# Altium footprint library plcc-socket.PCBLIB: 19 footprints (part 1 of 2)
Each footprint in its own frame and in the unit in brackets; x right, y up, seen from the top. Pads: shape width x height; smd on the part's side, far side on the other; paste and mask are expansions set on the pad; w line width, h text height; cw(c..) or ccw(c..) is an arc to the next point about the centre after c.
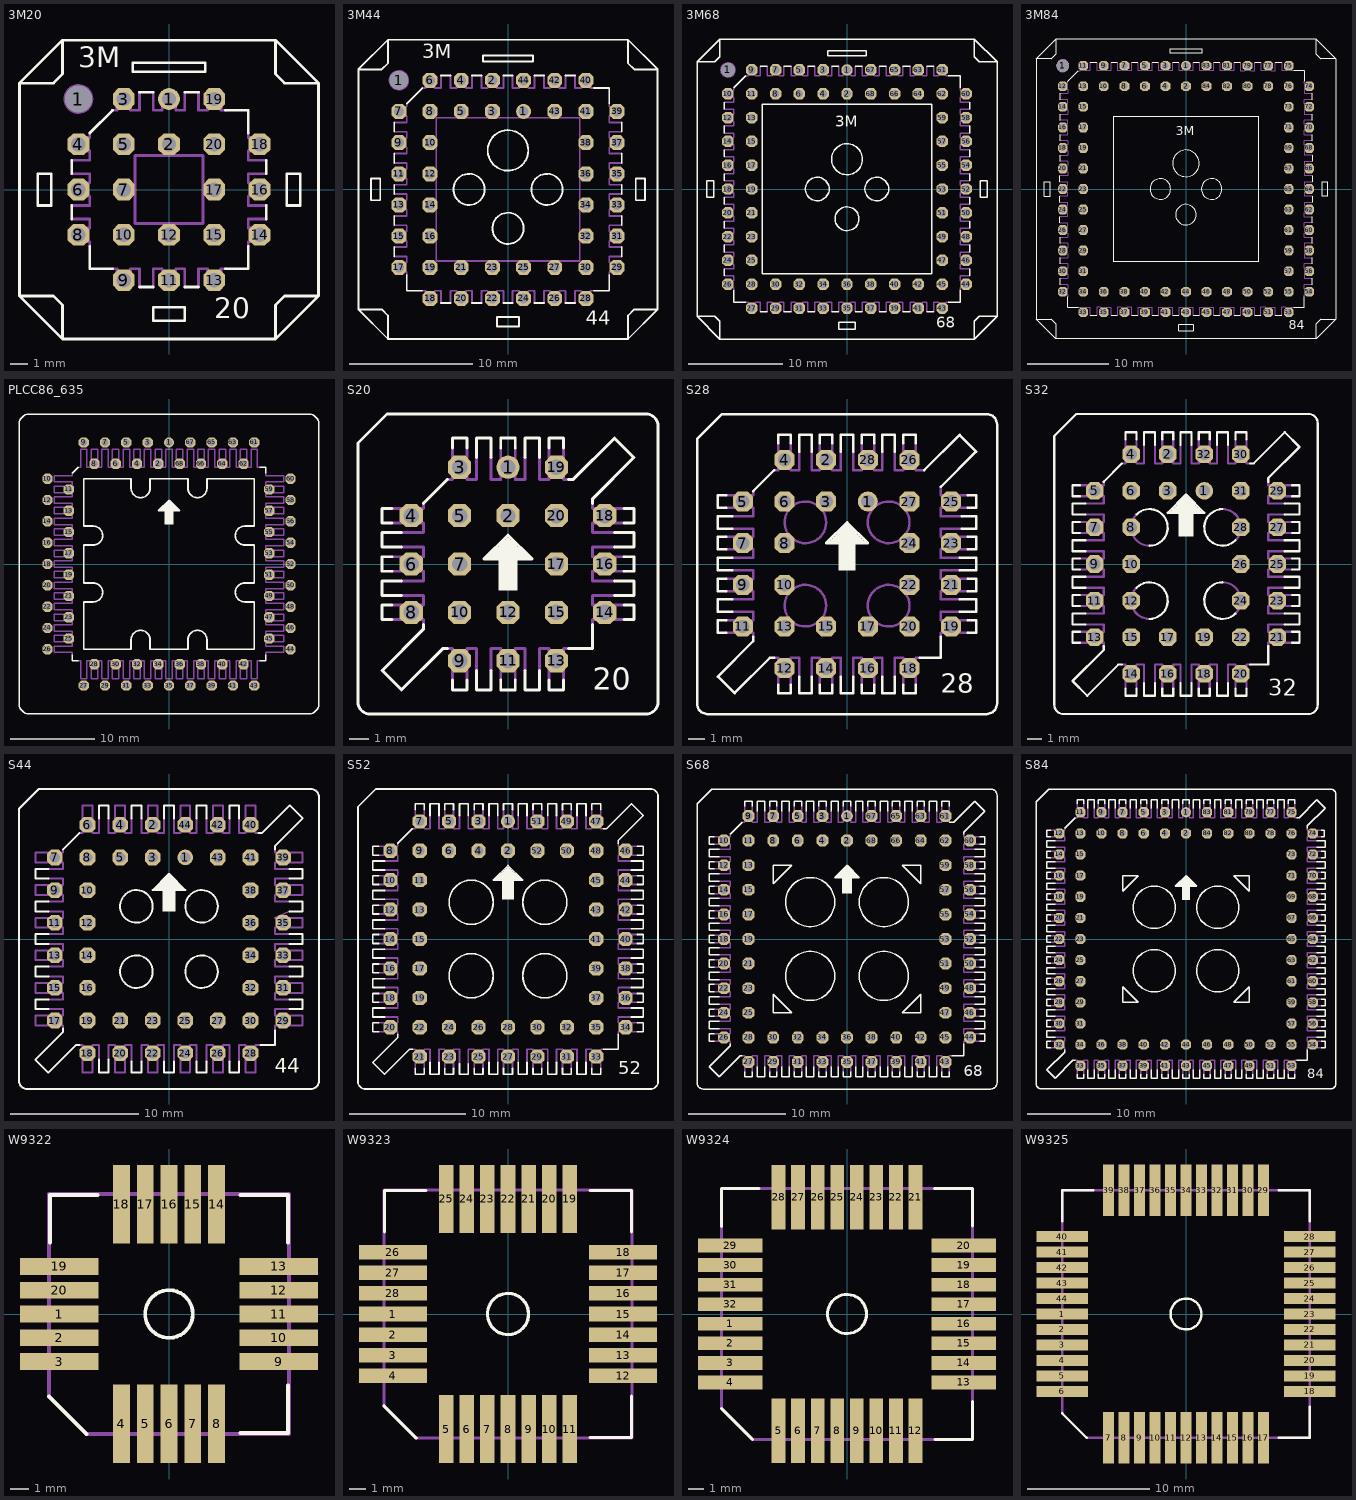
[diagram p0: the footprints below, top view; thin cyan lines are the x and y axes]

## 3M20 [mil]
pads (21):
  round 59 hole 59: 1(-200,200)
  round 48 hole 32: 1(0,200)
  oct 48x48 hole 32: 2(0,100) 3(-100,200) 4(-200,100) 5(-100,100) 6(-200,0) 7(-100,0) 8(-200,-100) 9(-100,-200) 10(-100,-100) 11(0,-200) 12(0,-100) 13(100,-200) 14(200,-100) 15(100,-100) 16(200,0) 17(100,0) 18(200,100) 19(100,200) 20(100,100)
Top Overlay:
  lines w6: -215,-65 -215,-35 ; -215,35 -215,65 ; -175,-125 -175,-175 -125,-175 ; -175,125 -125,175 ; -65,-215 -35,-215 ; -65,215 -35,215 ; 35,-215 65,-215 ; 35,215 65,215 ; 125,-175 175,-175 175,-125 ; 125,175 175,175 175,125 ; 215,-65 215,-35 ; 215,35 215,65 ; -330,-235 -330,235 ; -330,-235 -255,-235 -235,-255 -235,-330 ; -330,-235 -235,-330 ; -330,235 -255,235 -235,255 -235,330 ; -330,235 -235,330 ; -235,-330 235,-330 ; -235,330 235,330 ; 235,-330 235,-255 255,-235 330,-235 ; 235,-330 330,-235 ; 235,330 235,255 255,235 330,235 ; 235,330 330,235 ; 330,-235 330,235 ; -290,-35 -290,35 -260,35 -260,-35 -290,-35 ; -80,260 -80,280 80,280 80,260 -80,260 ; -35,-290 -35,-260 35,-260 35,-290 -35,-290 ; 260,-35 260,35 290,35 290,-35 260,-35
  text "3M" at -200,255 h77.5
  text "20" at 100,-300 h77.5
Mechanical 16:
  circle w6: c-200,200 r30
  lines w6: -215,-65 -175,-65 -175,-85 -215,-85 -215,-115 -175,-115 -175,-125 ; -215,-35 -175,-35 -175,-15 -215,-15 -215,15 -175,15 -175,35 -215,35 ; -215,65 -175,65 -175,85 -215,85 -215,115 -175,115 -175,125 ; -125,-175 -115,-175 -115,-215 -85,-215 -85,-175 -65,-175 -65,-215 ; -125,175 -115,175 -115,215 -85,215 -85,175 -65,175 -65,215 ; -35,-215 -35,-175 -15,-175 -15,-215 15,-215 15,-175 35,-175 35,-215 ; -35,215 -35,175 -15,175 -15,215 15,215 15,175 35,175 35,215 ; 65,-215 65,-175 85,-175 85,-215 115,-215 115,-175 125,-175 ; 65,215 65,175 85,175 85,215 115,215 115,175 125,175 ; 175,-125 175,-115 215,-115 215,-85 175,-85 175,-65 215,-65 ; 175,125 175,115 215,115 215,85 175,85 175,65 215,65 ; 215,-35 175,-35 175,-15 215,-15 215,15 175,15 175,35 215,35 ; -75,-75 75,-75 75,75 -75,75 -75,-75

## 3M44 [mil]
pads (45):
  round 59 hole 59: 1(-350,350)
  round 48 hole 32: 1(50,250)
  oct 48x48 hole 32: 2(-50,350) 3(-50,250) 4(-150,350) 5(-150,250) 6(-250,350) 7(-350,250) 8(-250,250) 9(-350,150) 10(-250,150) 11(-350,50) 12(-250,50) 13(-350,-50) 14(-250,-50) 15(-350,-150) 16(-250,-150) 17(-350,-250) 18(-250,-350) 19(-250,-250) 20(-150,-350) 21(-150,-250) 22(-50,-350) 23(-50,-250) 24(50,-350) 25(50,-250) 26(150,-350) 27(150,-250) 28(250,-350) 29(350,-250) 30(250,-250) 31(350,-150) 32(250,-150) 33(350,-50) 34(250,-50) 35(350,50) 36(250,50) 37(350,150) 38(250,150) 39(350,250) 40(250,350) 41(250,250) 42(150,350) 43(150,250) 44(50,350)
Top Overlay:
  circle w6: c0,125 r65
  circle w6: c125,0 r50
  circle w6: c0,-125 r50
  circle w6: c-125,0 r50
  lines w6: -365,-215 -365,-185 ; -365,-115 -365,-85 ; -365,-15 -365,15 ; -365,85 -365,115 ; -365,185 -365,215 ; -325,-275 -325,-325 -275,-325 ; -325,275 -275,325 ; -215,-365 -185,-365 ; -215,365 -185,365 ; -115,-365 -85,-365 ; -115,365 -85,365 ; -15,-365 15,-365 ; -15,365 15,365 ; 85,-365 115,-365 ; 85,365 115,365 ; 185,-365 215,-365 ; 185,365 215,365 ; 275,-325 325,-325 325,-275 ; 275,325 325,325 325,275 ; 365,-215 365,-185 ; 365,-115 365,-85 ; 365,-15 365,15 ; 365,85 365,115 ; 365,185 365,215 ; -480,-385 -480,385 ; -480,-385 -405,-385 -385,-405 -385,-480 ; -480,-385 -385,-480 ; -480,385 -405,385 -385,405 -385,480 ; -480,385 -385,480 ; -385,-480 385,-480 ; -385,480 385,480 ; 385,-480 385,-405 405,-385 480,-385 ; 385,-480 480,-385 ; 385,480 385,405 405,385 480,385 ; 385,480 480,385 ; 480,-385 480,385 ; -440,-35 -440,35 -410,35 -410,-35 -440,-35 ; -80,410 -80,430 80,430 80,410 -80,410 ; -35,-440 -35,-410 35,-410 35,-440 -35,-440 ; 410,-35 410,35 440,35 440,-35 410,-35
  text "3M" at -275,405 h77.5
  text "44" at 250,-450 h77.5
Mechanical 16:
  drawing of 165 lines, arcs and shapes, not listed

## 3M68 [mil]
pads (69):
  round 59 hole 59: 1(-500,500)
  round 48 hole 32: 1(0,500)
  oct 48x48 hole 32: 2(0,400) 3(-100,500) 4(-100,400) 5(-200,500) 6(-200,400) 7(-300,500) 8(-300,400) 9(-400,500) 10(-500,400) 11(-400,400) 12(-500,300) 13(-400,300) 14(-500,200) 15(-400,200) 16(-500,100) 17(-400,100) 18(-500,0) 19(-400,0) 20(-500,-100) 21(-400,-100) 22(-500,-200) 23(-400,-200) 24(-500,-300) 25(-400,-300) 26(-500,-400) 27(-400,-500) 28(-400,-400) 29(-300,-500) 30(-300,-400) 31(-200,-500) 32(-200,-400) 33(-100,-500) 34(-100,-400) 35(0,-500) 36(0,-400) 37(100,-500) 38(100,-400) 39(200,-500) 40(200,-400) 41(300,-500) 42(300,-400) 43(400,-500) 44(500,-400) 45(400,-400) 46(500,-300) 47(400,-300) 48(500,-200) 49(400,-200) 50(500,-100) 51(400,-100) 52(500,0) 53(400,0) 54(500,100) 55(400,100) 56(500,200) 57(400,200) 58(500,300) 59(400,300) 60(500,400) 61(400,500) 62(400,400) 63(300,500) 64(300,400) 65(200,500) 66(200,400) 67(100,500) 68(100,400)
Top Overlay:
  circle w6: c0,125 r65
  circle w6: c125,0 r50
  circle w6: c0,-125 r50
  circle w6: c-125,0 r50
  lines w6: -515,-365 -515,-335 ; -515,-265 -515,-235 ; -515,-165 -515,-135 ; -515,-65 -515,-35 ; -515,35 -515,65 ; -515,135 -515,165 ; -515,235 -515,265 ; -515,335 -515,365 ; -475,-425 -475,-475 -425,-475 ; -475,425 -425,475 ; -365,-515 -335,-515 ; -365,515 -335,515 ; -265,-515 -235,-515 ; -265,515 -235,515 ; -165,-515 -135,-515 ; -165,515 -135,515 ; -65,-515 -35,-515 ; -65,515 -35,515 ; 35,-515 65,-515 ; 35,515 65,515 ; 135,-515 165,-515 ; 135,515 165,515 ; 235,-515 265,-515 ; 235,515 265,515 ; 335,-515 365,-515 ; 335,515 365,515 ; 425,-475 475,-475 475,-425 ; 425,475 475,475 475,425 ; 515,-365 515,-335 ; 515,-265 515,-235 ; 515,-165 515,-135 ; 515,-65 515,-35 ; 515,35 515,65 ; 515,135 515,165 ; 515,235 515,265 ; 515,335 515,365 ; -630,-535 -630,535 ; -630,-535 -555,-535 -535,-555 -535,-630 ; -630,-535 -535,-630 ; -630,535 -555,535 -535,555 -535,630 ; -630,535 -535,630 ; -535,-630 535,-630 ; -535,630 535,630 ; 535,-630 535,-555 555,-535 630,-535 ; 535,-630 630,-535 ; 535,630 535,555 555,535 630,535 ; 535,630 630,535 ; 630,-535 630,535 ; -590,-35 -590,35 -560,35 -560,-35 -590,-35 ; -355,-355 -355,355 355,355 355,-355 -355,-355 ; -80,560 -80,580 80,580 80,560 -80,560 ; -35,-590 -35,-560 35,-560 35,-590 -35,-590 ; 560,-35 560,35 590,35 590,-35 560,-35
  text "3M" at -50,245 h77.5
  text "68" at 375,-600 h77.5
Mechanical 16:
  drawing of 245 lines, arcs and shapes, not listed

## 3M84 [mil]
pads (85):
  round 59 hole 59: 1(-600,600)
  round 48 hole 32: 1(0,600)
  oct 48x48 hole 32: 2(0,500) 3(-100,600) 4(-100,500) 5(-200,600) 6(-200,500) 7(-300,600) 8(-300,500) 9(-400,600) 10(-400,500) 11(-500,600) 12(-600,500) 13(-500,500) 14(-600,400) 15(-500,400) 16(-600,300) 17(-500,300) 18(-600,200) 19(-500,200) 20(-600,100) 21(-500,100) 22(-600,0) 23(-500,0) 24(-600,-100) 25(-500,-100) 26(-600,-200) 27(-500,-200) 28(-600,-300) 29(-500,-300) 30(-600,-400) 31(-500,-400) 32(-600,-500) 33(-500,-600) 34(-500,-500) 35(-400,-600) 36(-400,-500) 37(-300,-600) 38(-300,-500) 39(-200,-600) 40(-200,-500) 41(-100,-600) 42(-100,-500) 43(0,-600) 44(0,-500) 45(100,-600) 46(100,-500) 47(200,-600) 48(200,-500) 49(300,-600) 50(300,-500) 51(400,-600) 52(400,-500) 53(500,-600) 54(600,-500) 55(500,-500) 56(600,-400) 57(500,-400) 58(600,-300) 59(500,-300) 60(600,-200) 61(500,-200) 62(600,-100) 63(500,-100) 64(600,0) 65(500,0) 66(600,100) 67(500,100) 68(600,200) 69(500,200) 70(600,300) 71(500,300) 72(600,400) 73(500,400) 74(600,500) 75(500,600) 76(500,500) 77(400,600) 78(400,500) 79(300,600) 80(300,500) 81(200,600) 82(200,500) 83(100,600) 84(100,500)
Top Overlay:
  circle w6: c0,125 r65
  circle w6: c125,0 r50
  circle w6: c0,-125 r50
  circle w6: c-125,0 r50
  lines w6: -615,-465 -615,-435 ; -615,-365 -615,-335 ; -615,-265 -615,-235 ; -615,-165 -615,-135 ; -615,-65 -615,-35 ; -615,35 -615,65 ; -615,135 -615,165 ; -615,235 -615,265 ; -615,335 -615,365 ; -615,435 -615,465 ; -575,-525 -575,-575 -525,-575 ; -575,525 -525,575 ; -465,-615 -435,-615 ; -465,615 -435,615 ; -365,-615 -335,-615 ; -365,615 -335,615 ; -265,-615 -235,-615 ; -265,615 -235,615 ; -165,-615 -135,-615 ; -165,615 -135,615 ; -65,-615 -35,-615 ; -65,615 -35,615 ; 35,-615 65,-615 ; 35,615 65,615 ; 135,-615 165,-615 ; 135,615 165,615 ; 235,-615 265,-615 ; 235,615 265,615 ; 335,-615 365,-615 ; 335,615 365,615 ; 435,-615 465,-615 ; 435,615 465,615 ; 525,-575 575,-575 575,-525 ; 525,575 575,575 575,525 ; 615,-465 615,-435 ; 615,-365 615,-335 ; 615,-265 615,-235 ; 615,-165 615,-135 ; 615,-65 615,-35 ; 615,35 615,65 ; 615,135 615,165 ; 615,235 615,265 ; 615,335 615,365 ; 615,435 615,465 ; -730,-635 -730,635 ; -730,-635 -655,-635 -635,-655 -635,-730 ; -730,-635 -635,-730 ; -730,635 -655,635 -635,655 -635,730 ; -730,635 -635,730 ; -635,-730 635,-730 ; -635,730 635,730 ; 635,-730 635,-655 655,-635 730,-635 ; 635,-730 730,-635 ; 635,730 635,655 655,635 730,635 ; 635,730 730,635 ; 730,-635 730,635 ; -690,-35 -690,35 -660,35 -660,-35 -690,-35 ; -355,-355 -355,355 355,355 355,-355 -355,-355 ; -80,660 -80,680 80,680 80,660 -80,660 ; -35,-690 -35,-660 35,-660 35,-690 -35,-690 ; 660,-35 660,35 690,35 690,-35 660,-35
  text "3M" at -50,245 h77.5
  text "84" at 500,-700 h77.5
Mechanical 16:
  drawing of 301 lines, arcs and shapes, not listed

## PLCC86_635 [mil]
pads (68):
  round 48 hole 32: 1(0,570.08)
  oct 48x48 hole 32: 2(-50,470.08) 3(-100,570.08) 4(-150,470.08) 5(-200,570.08) 6(-250,470.08) 7(-300,570.08) 8(-350,470.08) 9(-400,570.08) 10(-570.08,400) 11(-470.08,350) 12(-570.08,300) 13(-470.08,250) 14(-570.08,200) 15(-470.08,150) 16(-570.08,100) 17(-470.08,50) 18(-570.08,0) 19(-470.08,-50) 20(-570.08,-100) 21(-470.08,-150) 22(-570.08,-200) 23(-470.08,-250) 24(-570.08,-300) 25(-470.08,-350) 26(-570.08,-400) 27(-400,-570.08) 28(-350,-470.08) 29(-300,-570.08) 30(-250,-470.08) 31(-200,-570.08) 32(-150,-470.08) 33(-100,-570.08) 34(-50,-470.08) 35(0,-570.08) 36(50,-470.08) 37(100,-570.08) 38(150,-470.08) 39(200,-570.08) 40(250,-470.08) 41(300,-570.08) 42(350,-470.08) 43(400,-570.08) 44(570.08,-400) 45(470.08,-350) 46(570.08,-300) 47(470.08,-250) 48(570.08,-200) 49(470.08,-150) 50(570.08,-100) 51(470.08,-50) 52(570.08,0) 53(470.08,50) 54(570.08,100) 55(470.08,150) 56(570.08,200) 57(470.08,250) 58(570.08,300) 59(470.08,350) 60(570.08,400) 61(400,570.08) 62(350,470.08) 63(300,570.08) 64(250,470.08) 65(200,570.08) 66(150,470.08) 67(100,570.08) 68(50,470.08)
Top Overlay:
  rectangle: -20,185 20,260
  rectangle: -35,250 35,265
  rectangle: -25,265 25,275
  rectangle: -15,275 15,285
  rectangle: -5,285 5,295
  rectangle: -45,250 -35,255
  rectangle: -40,255 -35,260
  rectangle: -30,265 -25,270
  rectangle: -20,275 -15,280
  rectangle: -10,285 -5,290
  rectangle: 5,285 10,290
  rectangle: 15,275 20,280
  rectangle: 25,265 30,270
  rectangle: 35,250 45,255
  rectangle: 35,255 40,260
  lines w6: -453.35,-425 -453.35,-453.35 -425,-453.35 ; -453.35,425 -425,453.35 ; 425,-453.35 453.35,-453.35 453.35,-425 ; 425,453.35 453.35,453.35 453.35,425 ; -703.5,-653.5 -703.5,653.5 cw(c-653.5,653.5) -653.5,703.5 653.5,703.5 cw(c653.5,653.5) 703.5,653.5 703.5,-653.5 cw(c653.5,-653.5) 653.5,-703.5 -653.5,-703.5 cw(c-653.5,-653.5) -703.5,-653.5 ; -50,250 50,250 0,300 -50,250
  lines w8: -400,-400 -177.78,-400 -177.78,-355.56 cw(c-133.33,-355.56) -133.33,-311.11 cw(c-133.34,-355.56) -88.89,-355.56 -88.89,-400 88.89,-400 88.89,-355.56 cw(c133.34,-355.56) 133.33,-311.11 cw(c133.33,-355.56) 177.78,-355.56 177.78,-400 400,-400 400,-177.78 355.56,-177.78 cw(c355.56,-133.33) 311.11,-133.33 cw(c355.56,-133.34) 355.56,-88.89 400,-88.89 400,88.89 355.56,88.89 cw(c355.56,133.34) 311.11,133.33 cw(c355.56,133.33) 355.56,177.78 400,177.78 400,400 177.78,400 177.78,355.56 cw(c133.33,355.56) 133.33,311.11 cw(c133.34,355.56) 88.89,355.56 88.89,400 -88.89,400 -88.89,355.56 cw(c-133.34,355.56) -133.33,311.11 cw(c-133.33,355.56) -177.78,355.56 -177.78,400 -400,400 -400,177.78 -355.56,177.78 cw(c-355.56,133.33) -311.11,133.33 cw(c-355.56,133.34) -355.56,88.89 -400,88.89 -400,-88.89 -355.56,-88.89 cw(c-355.56,-133.34) -311.11,-133.33 cw(c-355.56,-133.33) -355.56,-177.78 -400,-177.78 -400,-400
Mechanical 16:
  drawing of 277 lines, arcs and shapes, not listed

## S20 [mil]
pads (20):
  round 48 hole 32: 1(0,200)
  oct 48x48 hole 32: 2(0,100) 3(-100,200) 4(-200,100) 5(-100,100) 6(-200,0) 7(-100,0) 8(-200,-100) 9(-100,-200) 10(-100,-100) 11(0,-200) 12(0,-100) 13(100,-200) 14(200,-100) 15(100,-100) 16(200,0) 17(100,0) 18(200,100) 19(100,200) 20(100,100)
Top Overlay:
  rectangle: -20,-55 20,20
  rectangle: -35,10 35,25
  rectangle: -25,25 25,35
  rectangle: -15,35 15,45
  rectangle: -5,45 5,55
  rectangle: -45,10 -35,15
  rectangle: -40,15 -35,20
  rectangle: -30,25 -25,30
  rectangle: -20,35 -15,40
  rectangle: -10,45 -5,50
  rectangle: 5,45 10,50
  rectangle: 15,35 20,40
  rectangle: 25,25 30,30
  rectangle: 35,10 45,15
  rectangle: 35,15 40,20
  lines w6: -240,-115 -260,-115 -260,-85 -240,-85 ; -240,-15 -260,-15 -260,15 -240,15 ; -240,85 -260,85 -260,115 -240,115 ; -220,-65 -260,-65 -260,-35 -220,-35 ; -220,35 -260,35 -260,65 -220,65 ; -175,-125 -175,-135 -260,-220 -220,-260 -135,-175 -125,-175 ; -175,125 -125,175 ; -115,-240 -115,-260 -85,-260 -85,-240 ; -115,240 -115,260 -85,260 -85,240 ; -65,-220 -65,-260 -35,-260 -35,-220 ; -65,220 -65,260 -35,260 -35,220 ; -15,-240 -15,-260 15,-260 15,-240 ; -15,240 -15,260 15,260 15,240 ; 35,-220 35,-260 65,-260 65,-220 ; 35,220 35,260 65,260 65,220 ; 85,-240 85,-260 115,-260 115,-240 ; 85,240 85,260 115,260 115,240 ; 125,-175 175,-175 175,-125 ; 125,175 135,175 220,260 260,220 175,135 175,125 ; 220,-65 260,-65 260,-35 220,-35 ; 220,35 260,35 260,65 220,65 ; 240,-115 260,-115 260,-85 240,-85 ; 240,-15 260,-15 260,15 240,15 ; 240,85 260,85 260,115 240,115 ; -310,-285 -310,250 -250,310 285,310 cw(c285,285) 310,285 310,-285 cw(c285,-285) 285,-310 -285,-310 cw(c-285,-285) -310,-285 ; -50,10 50,10 0,60 -50,10
  text "20" at 175,-275 h77.5
Mechanical 16:
  lines w6: -240,-115 -175,-115 -175,-125 ; -240,-85 -175,-85 -175,-65 -220,-65 ; -240,-15 -175,-15 -175,-35 -220,-35 ; -240,15 -175,15 -175,35 -220,35 ; -240,85 -175,85 -175,65 -220,65 ; -240,115 -175,115 -175,125 ; -125,-175 -115,-175 -115,-240 ; -125,175 -115,175 -115,240 ; -85,-240 -85,-175 -65,-175 -65,-220 ; -85,240 -85,175 -65,175 -65,220 ; -35,-220 -35,-175 -15,-175 -15,-240 ; -35,220 -35,175 -15,175 -15,240 ; 15,-240 15,-175 35,-175 35,-220 ; 15,240 15,175 35,175 35,220 ; 65,-220 65,-175 85,-175 85,-240 ; 65,220 65,175 85,175 85,240 ; 115,-240 115,-175 125,-175 ; 115,240 115,175 125,175 ; 175,-125 175,-115 240,-115 ; 175,125 175,115 240,115 ; 220,-65 175,-65 175,-85 240,-85 ; 220,-35 175,-35 175,-15 240,-15 ; 220,35 175,35 175,15 240,15 ; 220,65 175,65 175,85 240,85

## S28 [mil]
pads (28):
  round 48 hole 32: 1(50,150)
  oct 48x48 hole 32: 2(-50,250) 3(-50,150) 4(-150,250) 5(-250,150) 6(-150,150) 7(-250,50) 8(-150,50) 9(-250,-50) 10(-150,-50) 11(-250,-150) 12(-150,-250) 13(-150,-150) 14(-50,-250) 15(-50,-150) 16(50,-250) 17(50,-150) 18(150,-250) 19(250,-150) 20(150,-150) 21(250,-50) 22(150,-50) 23(250,50) 24(150,50) 25(250,150) 26(150,250) 27(150,150) 28(50,250)
Top Overlay:
  rectangle: -20,-15 20,60
  rectangle: -35,50 35,65
  rectangle: -25,65 25,75
  rectangle: -15,75 15,85
  rectangle: -5,85 5,95
  rectangle: -45,50 -35,55
  rectangle: -40,55 -35,60
  rectangle: -30,65 -25,70
  rectangle: -20,75 -15,80
  rectangle: -10,85 -5,90
  rectangle: 5,85 10,90
  rectangle: 15,75 20,80
  rectangle: 25,65 30,70
  rectangle: 35,50 45,55
  rectangle: 35,55 40,60
  lines w6: -290,-165 -310,-165 -310,-135 -290,-135 ; -290,-65 -310,-65 -310,-35 -290,-35 ; -290,35 -310,35 -310,65 -290,65 ; -290,135 -310,135 -310,165 -290,165 ; -275,-115 -310,-115 -310,-85 -275,-85 ; -275,-15 -310,-15 -310,15 -275,15 ; -275,85 -310,85 -310,115 -275,115 ; -225,-175 -225,-185 -310,-270 -270,-310 -185,-225 -175,-225 ; -225,175 -175,225 ; -165,-290 -165,-310 -135,-310 -135,-290 ; -165,290 -165,310 -135,310 -135,290 ; -115,-270 -115,-310 -85,-310 -85,-270 ; -115,270 -115,310 -85,310 -85,270 ; -65,-290 -65,-310 -35,-310 -35,-290 ; -65,290 -65,310 -35,310 -35,290 ; -15,-270 -15,-310 15,-310 15,-270 ; -15,270 -15,310 15,310 15,270 ; 35,-290 35,-310 65,-310 65,-290 ; 35,290 35,310 65,310 65,290 ; 85,-270 85,-310 115,-310 115,-270 ; 85,270 85,310 115,310 115,270 ; 135,-290 135,-310 165,-310 165,-290 ; 135,290 135,310 165,310 165,290 ; 175,-225 225,-225 225,-175 ; 185,225 270,310 310,270 225,185 ; 270,-115 310,-115 310,-85 270,-85 ; 270,-15 310,-15 310,15 270,15 ; 275,85 310,85 310,115 275,115 ; 290,-165 310,-165 310,-135 290,-135 ; 290,-65 310,-65 310,-35 290,-35 ; 290,35 310,35 310,65 290,65 ; 290,135 310,135 310,165 290,165 ; -360,-335 -360,300 -300,360 335,360 cw(c335,335) 360,335 360,-335 cw(c335,-335) 335,-360 -335,-360 cw(c-335,-335) -360,-335 ; -50,50 50,50 0,100 -50,50
  text "28" at 225,-325 h77.5
Mechanical 16:
  circle w6: c-100,100 r50
  circle w6: c100,100 r50
  circle w6: c-100,-100 r50
  circle w6: c100,-100 r50
  lines w6: -290,-165 -225,-165 -225,-175 ; -290,-135 -225,-135 -225,-115 -275,-115 ; -290,-65 -225,-65 -225,-85 -275,-85 ; -290,-35 -225,-35 -225,-15 -275,-15 ; -290,35 -225,35 -225,15 -275,15 ; -290,65 -225,65 -225,85 -275,85 ; -290,135 -225,135 -225,115 -275,115 ; -290,165 -225,165 -225,175 ; -175,-225 -165,-225 -165,-290 ; -175,225 -165,225 -165,290 ; -135,-290 -135,-225 -115,-225 -115,-270 ; -135,290 -135,225 -115,225 -115,270 ; -85,-270 -85,-225 -65,-225 -65,-290 ; -85,270 -85,225 -65,225 -65,290 ; -35,-290 -35,-225 -15,-225 -15,-270 ; -35,290 -35,225 -15,225 -15,270 ; 15,-270 15,-225 35,-225 35,-290 ; 15,270 15,225 35,225 35,290 ; 65,-290 65,-225 85,-225 85,-270 ; 65,290 65,225 85,225 85,270 ; 115,-270 115,-225 135,-225 135,-290 ; 115,270 115,225 135,225 135,290 ; 165,-290 165,-225 175,-225 ; 165,290 165,225 185,225 ; 225,-175 225,-165 290,-165 ; 225,185 225,165 290,165 ; 270,-115 225,-115 225,-135 290,-135 ; 270,-85 225,-85 225,-65 290,-65 ; 270,-15 225,-15 225,-35 290,-35 ; 270,15 225,15 225,35 290,35 ; 275,85 225,85 225,65 290,65 ; 275,115 225,115 225,135 290,135

## S32 [mil]
pads (32):
  round 48 hole 32: 1(50,200)
  oct 48x48 hole 32: 2(-50,300) 3(-50,200) 4(-150,300) 5(-250,200) 6(-150,200) 7(-250,100) 8(-150,100) 9(-250,0) 10(-150,0) 11(-250,-100) 12(-150,-100) 13(-250,-200) 14(-150,-300) 15(-150,-200) 16(-50,-300) 17(-50,-200) 18(50,-300) 19(50,-200) 20(150,-300) 21(250,-200) 22(150,-200) 23(250,-100) 24(150,-100) 25(250,0) 26(150,0) 27(250,100) 28(150,100) 29(250,200) 30(150,300) 31(150,200) 32(50,300)
Top Overlay:
  rectangle: -20,75 20,150
  rectangle: -35,140 35,155
  rectangle: -25,155 25,165
  rectangle: -15,165 15,175
  rectangle: -5,175 5,185
  rectangle: -45,140 -35,145
  rectangle: -40,145 -35,150
  rectangle: -30,155 -25,160
  rectangle: -20,165 -15,170
  rectangle: -10,175 -5,180
  rectangle: 5,175 10,180
  rectangle: 15,165 20,170
  rectangle: 25,155 30,160
  rectangle: 35,140 45,145
  rectangle: 35,145 40,150
  lines w6: -290,-215 -310,-215 -310,-185 -290,-185 ; -290,-115 -310,-115 -310,-85 -290,-85 ; -290,-15 -310,-15 -310,15 -290,15 ; -290,85 -310,85 -310,115 -290,115 ; -290,185 -310,185 -310,215 -290,215 ; -275,-165 -310,-165 -310,-135 -275,-135 ; -275,-65 -310,-65 -310,-35 -275,-35 ; -275,35 -310,35 -310,65 -275,65 ; -275,135 -310,135 -310,165 -275,165 ; -225,-225 -225,-235 -310,-320 -270,-360 -185,-275 -175,-275 ; -225,225 -175,275 ; -165,-340 -165,-360 -135,-360 -135,-340 ; -165,340 -165,360 -135,360 -135,340 ; -135.35,-64.65 cw(c-100,-100) -100,-150 ; -135.35,135.35 cw(c-100,99.99) -100,49.99 ; -115,-325 -115,-360 -85,-360 -85,-325 ; -115,325 -115,360 -85,360 -85,325 ; -65,-340 -65,-360 -35,-360 -35,-340 ; -65,340 -65,360 -35,360 -35,340 ; -15,-325 -15,-360 15,-360 15,-325 ; -15,325 -15,360 15,360 15,325 ; 35,-340 35,-360 65,-360 65,-340 ; 35,340 35,360 65,360 65,340 ; 85,-325 85,-360 115,-360 115,-325 ; 85,325 85,360 115,360 115,325 ; 100,-50 ccw(c100,-100) 135.35,-135.35 ; 100,150 ccw(c100,100) 135.35,64.65 ; 135,-340 135,-360 165,-360 165,-340 ; 135,340 135,360 165,360 165,340 ; 175,-275 225,-275 225,-225 ; 175,275 185,275 270,360 310,320 225,235 225,225 ; 270,-165 310,-165 310,-135 270,-135 ; 270,-65 310,-65 310,-35 270,-35 ; 270,35 310,35 310,65 270,65 ; 270,135 310,135 310,165 270,165 ; 290,-215 310,-215 310,-185 290,-185 ; 290,-115 310,-115 310,-85 290,-85 ; 290,-15 310,-15 310,15 290,15 ; 290,85 310,85 310,115 290,115 ; 290,185 310,185 310,215 290,215 ; -360,-385 -360,350 -300,410 335,410 cw(c335,385) 360,385 360,-385 cw(c335,-385) 335,-410 -335,-410 cw(c-335,-385) -360,-385 ; -50,140 50,140 0,190 -50,140
  text "32" at 225,-375 h77.5
Mechanical 16:
  lines w6: -290,-215 -225,-215 -225,-225 ; -290,-185 -225,-185 -225,-165 -275,-165 ; -290,-115 -225,-115 -225,-135 -275,-135 ; -290,-85 -225,-85 -225,-65 -275,-65 ; -290,-15 -225,-15 -225,-35 -275,-35 ; -290,15 -225,15 -225,35 -275,35 ; -290,85 -225,85 -225,65 -275,65 ; -290,115 -225,115 -225,135 -275,135 ; -290,185 -225,185 -225,165 -275,165 ; -290,215 -225,215 -225,225 ; -175,-275 -165,-275 -165,-340 ; -175,275 -165,275 -165,340 ; -135.35,-64.65 ccw(c-100,-100.01) -150,-100 ccw(c-100,-100) -100,-150 ; -135.35,135.35 ccw(c-100,99.99) -150,100 ccw(c-100,100) -100,50 ; -135,-340 -135,-275 -115,-275 -115,-325 ; -135,340 -135,275 -115,275 -115,325 ; -85,-325 -85,-275 -65,-275 -65,-340 ; -85,325 -85,275 -65,275 -65,340 ; -35,-340 -35,-275 -15,-275 -15,-325 ; -35,340 -35,275 -15,275 -15,325 ; 15,-325 15,-275 35,-275 35,-340 ; 15,325 15,275 35,275 35,340 ; 65,-340 65,-275 85,-275 85,-325 ; 65,340 65,275 85,275 85,325 ; 100,-50 cw(c100,-100) 150,-100 cw(c100,-99.99) 135.35,-135.35 ; 100,150 cw(c100,100) 150,100 cw(c100,100.01) 135.35,64.65 ; 115,-325 115,-275 135,-275 135,-340 ; 115,325 115,275 135,275 135,340 ; 165,-340 165,-275 175,-275 ; 165,340 165,275 175,275 ; 225,-225 225,-215 290,-215 ; 225,225 225,215 290,215 ; 270,-165 225,-165 225,-185 290,-185 ; 270,-135 225,-135 225,-115 290,-115 ; 270,-65 225,-65 225,-85 290,-85 ; 270,-35 225,-35 225,-15 290,-15 ; 270,35 225,35 225,15 290,15 ; 270,65 225,65 225,85 290,85 ; 270,135 225,135 225,115 290,115 ; 270,165 225,165 225,185 290,185

## S44 [mil]
pads (44):
  round 48 hole 32: 1(50,250)
  oct 48x48 hole 32: 2(-50,350) 3(-50,250) 4(-150,350) 5(-150,250) 6(-250,350) 7(-350,250) 8(-250,250) 9(-350,150) 10(-250,150) 11(-350,50) 12(-250,50) 13(-350,-50) 14(-250,-50) 15(-350,-150) 16(-250,-150) 17(-350,-250) 18(-250,-350) 19(-250,-250) 20(-150,-350) 21(-150,-250) 22(-50,-350) 23(-50,-250) 24(50,-350) 25(50,-250) 26(150,-350) 27(150,-250) 28(250,-350) 29(350,-250) 30(250,-250) 31(350,-150) 32(250,-150) 33(350,-50) 34(250,-50) 35(350,50) 36(250,50) 37(350,150) 38(250,150) 39(350,250) 40(250,350) 41(250,250) 42(150,350) 43(150,250) 44(50,350)
Top Overlay:
  circle w6: c-100,100 r50
  circle w6: c100,100 r50
  circle w6: c-100,-100 r50
  circle w6: c100,-100 r50
  rectangle: -20,85 20,160
  rectangle: -35,150 35,165
  rectangle: -25,165 25,175
  rectangle: -15,175 15,185
  rectangle: -5,185 5,195
  rectangle: -45,150 -35,155
  rectangle: -40,155 -35,160
  rectangle: -30,165 -25,170
  rectangle: -20,175 -15,180
  rectangle: -10,185 -5,190
  rectangle: 5,185 10,190
  rectangle: 15,175 20,180
  rectangle: 25,165 30,170
  rectangle: 35,150 45,155
  rectangle: 35,155 40,160
  lines w6: -370,-215 -410,-215 -410,-185 -370,-185 ; -370,-115 -410,-115 -410,-85 -370,-85 ; -370,-15 -410,-15 -410,15 -370,15 ; -370,85 -410,85 -410,115 -370,115 ; -370,185 -410,185 -410,215 -370,215 ; -325,-275 -325,-285 -410,-370 -370,-410 -285,-325 -275,-325 ; -325,275 -275,325 ; -215,-370 -215,-410 -185,-410 -185,-370 ; -215,370 -215,410 -185,410 -185,370 ; -115,-375 -115,-410 -85,-410 -85,-375 ; -115,370 -115,410 -85,410 -85,370 ; -15,-375 -15,-410 15,-410 15,-375 ; -15,370 -15,410 15,410 15,370 ; 85,-375 85,-410 115,-410 115,-375 ; 85,370 85,410 115,410 115,370 ; 185,-375 185,-410 215,-410 215,-375 ; 185,370 185,410 215,410 215,370 ; 275,325 285,325 370,410 410,370 325,285 325,275 ; 280,-325 325,-325 325,-280 ; 370,-215 410,-215 410,-185 370,-185 ; 370,-115 410,-115 410,-85 370,-85 ; 370,-15 410,-15 410,15 370,15 ; 370,85 410,85 410,115 370,115 ; 370,185 410,185 410,215 370,215 ; -460,-435 -460,400 -400,460 435,460 cw(c435,435) 460,435 460,-435 cw(c435,-435) 435,-460 -435,-460 cw(c-435,-435) -460,-435 ; -50,150 50,150 0,200 -50,150
  text "44" at 325,-425 h77.5
Mechanical 16:
  drawing of 159 lines, arcs and shapes, not listed

## S52 [mil]
pads (52):
  round 48 hole 32: 1(0,400)
  oct 48x48 hole 32: 2(0,300) 3(-100,400) 4(-100,300) 5(-200,400) 6(-200,300) 7(-300,400) 8(-400,300) 9(-300,300) 10(-400,200) 11(-300,200) 12(-400,100) 13(-300,100) 14(-400,0) 15(-300,0) 16(-400,-100) 17(-300,-100) 18(-400,-200) 19(-300,-200) 20(-400,-300) 21(-300,-400) 22(-300,-300) 23(-200,-400) 24(-200,-300) 25(-100,-400) 26(-100,-300) 27(0,-400) 28(0,-300) 29(100,-400) 30(100,-300) 31(200,-400) 32(200,-300) 33(300,-400) 34(400,-300) 35(300,-300) 36(400,-200) 37(300,-200) 38(400,-100) 39(300,-100) 40(400,0) 41(300,0) 42(400,100) 43(300,100) 44(400,200) 45(300,200) 46(400,300) 47(300,400) 48(300,300) 49(200,400) 50(200,300) 51(100,400) 52(100,300)
Top Overlay:
  drawing of 199 lines, arcs and shapes, not listed
  text "52" at 375,-475 h77.5
Mechanical 16:
  drawing of 160 lines, arcs and shapes, not listed

## S68 [mil]
pads (68):
  round 48 hole 32: 1(0,500)
  oct 48x48 hole 32: 2(0,400) 3(-100,500) 4(-100,400) 5(-200,500) 6(-200,400) 7(-300,500) 8(-300,400) 9(-400,500) 10(-500,400) 11(-400,400) 12(-500,300) 13(-400,300) 14(-500,200) 15(-400,200) 16(-500,100) 17(-400,100) 18(-500,0) 19(-400,0) 20(-500,-100) 21(-400,-100) 22(-500,-200) 23(-400,-200) 24(-500,-300) 25(-400,-300) 26(-500,-400) 27(-400,-500) 28(-400,-400) 29(-300,-500) 30(-300,-400) 31(-200,-500) 32(-200,-400) 33(-100,-500) 34(-100,-400) 35(0,-500) 36(0,-400) 37(100,-500) 38(100,-400) 39(200,-500) 40(200,-400) 41(300,-500) 42(300,-400) 43(400,-500) 44(500,-400) 45(400,-400) 46(500,-300) 47(400,-300) 48(500,-200) 49(400,-200) 50(500,-100) 51(400,-100) 52(500,0) 53(400,0) 54(500,100) 55(400,100) 56(500,200) 57(400,200) 58(500,300) 59(400,300) 60(500,400) 61(400,500) 62(400,400) 63(300,500) 64(300,400) 65(200,500) 66(200,400) 67(100,500) 68(100,400)
Top Overlay:
  drawing of 259 lines, arcs and shapes, not listed
  text "68" at 475,-575 h77.5
Mechanical 16:
  drawing of 207 lines, arcs and shapes, not listed

## S84 [mil]
pads (84):
  round 48 hole 32: 1(0,600)
  oct 48x48 hole 32: 2(0,500) 3(-100,600) 4(-100,500) 5(-200,600) 6(-200,500) 7(-300,600) 8(-300,500) 9(-400,600) 10(-400,500) 11(-500,600) 12(-600,500) 13(-500,500) 14(-600,400) 15(-500,400) 16(-600,300) 17(-500,300) 18(-600,200) 19(-500,200) 20(-600,100) 21(-500,100) 22(-600,0) 23(-500,0) 24(-600,-100) 25(-500,-100) 26(-600,-200) 27(-500,-200) 28(-600,-300) 29(-500,-300) 30(-600,-400) 31(-500,-400) 32(-600,-500) 33(-500,-600) 34(-500,-500) 35(-400,-600) 36(-400,-500) 37(-300,-600) 38(-300,-500) 39(-200,-600) 40(-200,-500) 41(-100,-600) 42(-100,-500) 43(0,-600) 44(0,-500) 45(100,-600) 46(100,-500) 47(200,-600) 48(200,-500) 49(300,-600) 50(300,-500) 51(400,-600) 52(400,-500) 53(500,-600) 54(600,-500) 55(500,-500) 56(600,-400) 57(500,-400) 58(600,-300) 59(500,-300) 60(600,-200) 61(500,-200) 62(600,-100) 63(500,-100) 64(600,0) 65(500,0) 66(600,100) 67(500,100) 68(600,200) 69(500,200) 70(600,300) 71(500,300) 72(600,400) 73(500,400) 74(600,500) 75(500,600) 76(500,500) 77(400,600) 78(400,500) 79(300,600) 80(300,500) 81(200,600) 82(200,500) 83(100,600) 84(100,500)
Top Overlay:
  drawing of 307 lines, arcs and shapes, not listed
  text "84" at 575,-675 h77.5
Mechanical 16:
  drawing of 256 lines, arcs and shapes, not listed

## W9322 [mil]
pads (20):
  rect 165.35x35.43 smd: 1(-230.32,0) 2(-230.32,-50) 3(-230.32,-100) 9(230.32,-100) 10(230.32,-50) 11(230.32,0) 12(230.32,50) 13(230.32,100) 19(-230.32,100) 20(-230.32,50)
  rect 35.43x165.35 smd: 4(-100,-230.32) 5(-50,-230.32) 6(0,-230.32) 7(50,-230.32) 8(100,-230.32) 14(100,230.32) 15(50,230.32) 16(0,230.32) 17(-50,230.32) 18(-100,230.32)
Top Overlay:
  circle w8: c0,0 r50
  lines w8: -251.97,-173.23 -173.23,-251.97 ; -250,150 -250,250 -150,250 ; 150,-250 250,-250 250,-150 ; 150,250 250,250 250,150
Top Paste:
  rectangle: -311.02,-16.73 -149.61,16.73
  rectangle: -311.02,-66.73 -149.61,-33.27
  rectangle: -311.02,-116.73 -149.61,-83.27
  region: -83.27,-311.02 -83.27,-149.6 -116.73,-149.6 -116.73,-311.02
  region: -33.27,-311.02 -33.26,-149.6 -66.73,-149.6 -66.74,-311.02
  region: 16.73,-311.02 16.74,-149.61 -16.73,-149.61 -16.74,-311.02
  region: 66.73,-311.02 66.74,-149.6 33.27,-149.6 33.26,-311.02
  region: 116.73,-311.02 116.73,-149.6 83.27,-149.6 83.27,-311.02
  region: 311.02,-83.27 149.61,-83.27 149.61,-116.73 311.02,-116.73
  region: 311.02,-33.27 149.61,-33.27 149.61,-66.73 311.02,-66.73
  region: 311.02,16.73 149.61,16.73 149.61,-16.73 311.02,-16.73
  region: 311.02,66.73 149.61,66.73 149.61,33.27 311.02,33.27
  region: 311.02,116.73 149.61,116.73 149.61,83.27 311.02,83.27
  region: 83.27,311.02 83.26,149.6 116.73,149.6 116.74,311.02
  region: 33.27,311.02 33.26,149.6 66.73,149.6 66.74,311.02
  region: -16.73,311.02 -16.74,149.61 16.73,149.61 16.74,311.02
  region: -66.73,311.02 -66.74,149.6 -33.27,149.6 -33.26,311.02
  region: -116.73,311.02 -116.74,149.6 -83.27,149.6 -83.26,311.02
  rectangle: -311.02,83.27 -149.61,116.73
  rectangle: -311.02,33.27 -149.61,66.73
Top Solder:
  rectangle: -314.96,-19.69 -145.67,19.69
  rectangle: -314.96,-69.69 -145.67,-30.32
  rectangle: -314.96,-119.69 -145.67,-80.32
  region: -80.31,-314.97 -80.31,-145.66 -119.69,-145.66 -119.69,-314.97
  region: -30.32,-314.97 -30.31,-145.66 -69.69,-145.66 -69.69,-314.97
  region: 19.68,-314.97 19.69,-145.66 -19.68,-145.66 -19.69,-314.97
  region: 69.69,-314.97 69.69,-145.66 30.32,-145.66 30.31,-314.97
  region: 119.69,-314.97 119.69,-145.66 80.31,-145.66 80.31,-314.97
  region: 314.96,-80.32 145.67,-80.32 145.67,-119.69 314.96,-119.69
  region: 314.96,-30.32 145.67,-30.32 145.67,-69.69 314.96,-69.69
  region: 314.96,19.69 145.67,19.69 145.67,-19.69 314.96,-19.69
  region: 314.96,69.69 145.67,69.69 145.67,30.32 314.96,30.32
  region: 314.96,119.69 145.67,119.69 145.67,80.32 314.96,80.32
  region: 80.32,314.97 80.31,145.66 119.68,145.66 119.69,314.97
  region: 30.32,314.97 30.31,145.66 69.68,145.66 69.69,314.97
  region: -19.68,314.97 -19.69,145.66 19.68,145.66 19.69,314.97
  region: -69.68,314.97 -69.69,145.66 -30.32,145.66 -30.31,314.97
  region: -119.68,314.97 -119.69,145.66 -80.32,145.66 -80.31,314.97
  rectangle: -314.96,80.32 -145.67,119.69
  rectangle: -314.96,30.32 -145.67,69.69
Mechanical 16:
  lines w8: -251.97,-173.23 -251.97,251.97 251.97,251.97 251.97,-251.97 -173.23,-251.97

## W9323 [mil]
pads (28):
  rect 165.35x35.43 smd: 1(-279.53,0) 2(-279.53,-50) 3(-279.53,-100) 4(-279.53,-150) 12(279.53,-150) 13(279.53,-100) 14(279.53,-50) 15(279.53,0) 16(279.53,50) 17(279.53,100) 18(279.53,150) 26(-279.53,150) 27(-279.53,100) 28(-279.53,50)
  rect 35.43x165.35 smd: 5(-150,-279.53) 6(-100,-279.53) 7(-50,-279.53) 8(0,-279.53) 9(50,-279.53) 10(100,-279.53) 11(150,-279.53) 19(150,279.53) 20(100,279.53) 21(50,279.53) 22(0,279.53) 23(-50,279.53) 24(-100,279.53) 25(-150,279.53)
Top Overlay:
  circle w8: c0,0 r50
  lines w8: -301.18,-222.44 -222.44,-301.18 ; -300,200 -300,300 -200,300 ; 200,-300 300,-300 300,-200 ; 200,300 300,300 300,200
Top Paste:
  rectangle: -360.24,-16.73 -198.82,16.73
  rectangle: -360.24,-66.73 -198.82,-33.27
  rectangle: -360.24,-116.73 -198.82,-83.27
  rectangle: -360.24,-166.73 -198.82,-133.27
  region: -133.27,-360.24 -133.27,-198.82 -166.73,-198.82 -166.73,-360.24
  region: -83.27,-360.24 -83.27,-198.82 -116.73,-198.82 -116.73,-360.24
  region: -33.27,-360.24 -33.27,-198.82 -66.73,-198.82 -66.73,-360.24
  region: 16.73,-360.24 16.73,-198.82 -16.73,-198.82 -16.73,-360.24
  region: 66.73,-360.24 66.73,-198.82 33.27,-198.82 33.27,-360.24
  region: 116.73,-360.24 116.73,-198.82 83.27,-198.82 83.27,-360.24
  region: 166.73,-360.24 166.73,-198.82 133.27,-198.82 133.27,-360.24
  region: 360.24,-133.27 198.82,-133.27 198.82,-166.73 360.24,-166.73
  region: 360.24,-83.27 198.82,-83.27 198.82,-116.73 360.24,-116.73
  region: 360.24,-33.27 198.82,-33.27 198.82,-66.73 360.24,-66.73
  region: 360.24,16.73 198.82,16.73 198.82,-16.73 360.24,-16.73
  region: 360.24,66.73 198.82,66.73 198.82,33.27 360.24,33.27
  region: 360.24,116.73 198.82,116.73 198.82,83.27 360.24,83.27
  region: 360.24,166.73 198.82,166.73 198.82,133.27 360.24,133.27
  region: 133.27,360.24 133.27,198.82 166.73,198.82 166.73,360.24
  region: 83.27,360.24 83.27,198.82 116.73,198.82 116.73,360.24
  region: 33.27,360.24 33.27,198.82 66.73,198.82 66.73,360.24
  region: -16.73,360.24 -16.73,198.82 16.73,198.82 16.73,360.24
  region: -66.73,360.24 -66.73,198.82 -33.27,198.82 -33.27,360.24
  region: -116.73,360.24 -116.73,198.82 -83.27,198.82 -83.27,360.24
  region: -166.73,360.24 -166.73,198.82 -133.27,198.82 -133.27,360.24
  rectangle: -360.24,133.27 -198.82,166.73
  rectangle: -360.24,83.27 -198.82,116.73
  rectangle: -360.24,33.27 -198.82,66.73
Top Solder:
  rectangle: -364.17,-19.69 -194.88,19.69
  rectangle: -364.17,-69.69 -194.88,-30.32
  rectangle: -364.17,-119.69 -194.88,-80.32
  rectangle: -364.17,-169.69 -194.88,-130.32
  region: -130.31,-364.17 -130.31,-194.87 -169.69,-194.87 -169.69,-364.17
  region: -80.31,-364.17 -80.31,-194.87 -119.69,-194.87 -119.69,-364.17
  region: -30.32,-364.17 -30.31,-194.87 -69.69,-194.87 -69.69,-364.17
  region: 19.68,-364.17 19.69,-194.87 -19.68,-194.87 -19.69,-364.17
  region: 69.69,-364.17 69.69,-194.87 30.32,-194.87 30.31,-364.17
  region: 119.69,-364.17 119.69,-194.87 80.31,-194.87 80.31,-364.17
  region: 169.69,-364.17 169.69,-194.87 130.31,-194.87 130.31,-364.17
  region: 364.17,-130.32 194.88,-130.32 194.88,-169.69 364.17,-169.69
  region: 364.17,-80.32 194.88,-80.32 194.88,-119.69 364.17,-119.69
  region: 364.17,-30.32 194.88,-30.32 194.88,-69.69 364.17,-69.69
  region: 364.17,19.69 194.88,19.69 194.88,-19.69 364.17,-19.69
  region: 364.17,69.69 194.88,69.69 194.88,30.32 364.17,30.32
  region: 364.17,119.69 194.88,119.69 194.88,80.32 364.17,80.32
  region: 364.17,169.69 194.88,169.69 194.88,130.32 364.17,130.32
  region: 130.32,364.17 130.31,194.87 169.68,194.87 169.69,364.17
  region: 80.32,364.17 80.31,194.87 119.68,194.87 119.69,364.17
  region: 30.32,364.17 30.31,194.87 69.68,194.87 69.69,364.17
  region: -19.68,364.17 -19.69,194.87 19.68,194.87 19.69,364.17
  region: -69.68,364.17 -69.69,194.87 -30.32,194.87 -30.31,364.17
  region: -119.68,364.17 -119.69,194.87 -80.32,194.87 -80.31,364.17
  region: -169.68,364.17 -169.69,194.87 -130.32,194.87 -130.31,364.17
  rectangle: -364.17,130.32 -194.88,169.69
  rectangle: -364.17,80.32 -194.88,119.69
  rectangle: -364.17,30.32 -194.88,69.69
Mechanical 16:
  lines w8: -301.18,-222.44 -301.18,301.18 301.18,301.18 301.18,-301.18 -222.44,-301.18

## W9324 [mil]
pads (32):
  rect 165.35x35.43 smd: 1(-299.21,-25) 2(-299.21,-75) 3(-299.21,-125) 4(-299.21,-175) 13(299.21,-175) 14(299.21,-125) 15(299.21,-75) 16(299.21,-25) 17(299.21,25) 18(299.21,75) 19(299.21,125) 20(299.21,175) 29(-299.21,175) 30(-299.21,125) 31(-299.21,75) 32(-299.21,25)
  rect 35.43x165.35 smd: 5(-175,-299.21) 6(-125,-299.21) 7(-75,-299.21) 8(-25,-299.21) 9(25,-299.21) 10(75,-299.21) 11(125,-299.21) 12(175,-299.21) 21(175,299.21) 22(125,299.21) 23(75,299.21) 24(25,299.21) 25(-25,299.21) 26(-75,299.21) 27(-125,299.21) 28(-175,299.21)
Top Overlay:
  circle w8: c0,0 r50
  lines w8: -320.87,-242.13 -242.13,-320.87 ; -320.87,224.41 -320.87,320.87 -225.39,320.87 ; 224.41,320.87 320.87,320.87 320.87,225.39 ; 225.39,-320.87 320.87,-320.87 320.87,-224.41
Top Paste:
  rectangle: -379.92,-41.73 -218.5,-8.27
  rectangle: -379.92,-91.73 -218.5,-58.27
  rectangle: -379.92,-141.73 -218.5,-108.27
  rectangle: -379.92,-191.73 -218.5,-158.27
  region: -158.27,-379.92 -158.27,-218.5 -191.73,-218.5 -191.73,-379.92
  region: -108.27,-379.92 -108.27,-218.5 -141.73,-218.5 -141.73,-379.92
  region: -58.27,-379.92 -58.27,-218.5 -91.73,-218.5 -91.73,-379.92
  region: -8.27,-379.92 -8.27,-218.5 -41.73,-218.5 -41.73,-379.92
  region: 41.73,-379.92 41.73,-218.5 8.27,-218.5 8.27,-379.92
  region: 91.73,-379.92 91.73,-218.5 58.27,-218.5 58.27,-379.92
  region: 141.73,-379.92 141.73,-218.5 108.27,-218.5 108.27,-379.92
  region: 191.73,-379.92 191.73,-218.5 158.27,-218.5 158.27,-379.92
  region: 379.92,-158.27 218.5,-158.27 218.5,-191.73 379.92,-191.73
  region: 379.92,-108.27 218.5,-108.27 218.5,-141.73 379.92,-141.73
  region: 379.92,-58.27 218.5,-58.27 218.5,-91.73 379.92,-91.73
  region: 379.92,-8.27 218.5,-8.27 218.5,-41.73 379.92,-41.73
  region: 379.92,41.73 218.5,41.73 218.5,8.27 379.92,8.27
  region: 379.92,91.73 218.5,91.73 218.5,58.27 379.92,58.27
  region: 379.92,141.73 218.5,141.73 218.5,108.27 379.92,108.27
  region: 379.92,191.73 218.5,191.73 218.5,158.27 379.92,158.27
  region: 158.27,379.92 158.27,218.5 191.73,218.5 191.73,379.92
  region: 108.27,379.92 108.27,218.5 141.73,218.5 141.73,379.92
  region: 58.27,379.92 58.27,218.5 91.73,218.5 91.73,379.92
  region: 8.27,379.92 8.27,218.5 41.73,218.5 41.73,379.92
  region: -41.73,379.92 -41.73,218.5 -8.27,218.5 -8.27,379.92
  region: -91.73,379.92 -91.73,218.5 -58.27,218.5 -58.27,379.92
  region: -141.73,379.92 -141.73,218.5 -108.27,218.5 -108.27,379.92
  region: -191.73,379.92 -191.73,218.5 -158.27,218.5 -158.27,379.92
  rectangle: -379.92,158.27 -218.5,191.73
  rectangle: -379.92,108.27 -218.5,141.73
  rectangle: -379.92,58.27 -218.5,91.73
  rectangle: -379.92,8.27 -218.5,41.73
Top Solder:
  rectangle: -383.86,-44.69 -214.57,-5.32
  rectangle: -383.86,-94.69 -214.57,-55.32
  rectangle: -383.86,-144.69 -214.57,-105.32
  rectangle: -383.86,-194.69 -214.57,-155.32
  region: -155.31,-383.86 -155.31,-214.56 -194.69,-214.56 -194.69,-383.86
  region: -105.31,-383.87 -105.31,-214.56 -144.69,-214.56 -144.69,-383.87
  region: -55.31,-383.87 -55.31,-214.56 -94.69,-214.56 -94.69,-383.87
  region: -5.32,-383.87 -5.31,-214.56 -44.69,-214.56 -44.69,-383.87
  region: 44.69,-383.87 44.69,-214.56 5.32,-214.56 5.31,-383.87
  region: 94.69,-383.87 94.69,-214.56 55.31,-214.56 55.31,-383.87
  region: 144.69,-383.87 144.69,-214.56 105.31,-214.56 105.31,-383.87
  region: 194.69,-383.86 194.69,-214.56 155.31,-214.56 155.31,-383.86
  region: 383.86,-155.32 214.57,-155.32 214.57,-194.69 383.86,-194.69
  region: 383.86,-105.32 214.57,-105.32 214.57,-144.69 383.86,-144.69
  region: 383.86,-55.32 214.57,-55.32 214.57,-94.69 383.86,-94.69
  region: 383.86,-5.32 214.57,-5.32 214.57,-44.69 383.86,-44.69
  region: 383.86,44.69 214.57,44.69 214.57,5.32 383.86,5.32
  region: 383.86,94.69 214.57,94.69 214.57,55.32 383.86,55.32
  region: 383.86,144.69 214.57,144.69 214.57,105.32 383.86,105.32
  region: 383.86,194.69 214.57,194.69 214.57,155.32 383.86,155.32
  region: 155.32,383.86 155.31,214.56 194.68,214.56 194.69,383.86
  region: 105.32,383.87 105.31,214.56 144.69,214.56 144.69,383.87
  region: 55.32,383.87 55.31,214.56 94.68,214.56 94.69,383.87
  region: 5.32,383.87 5.31,214.56 44.68,214.56 44.69,383.87
  region: -44.68,383.87 -44.69,214.56 -5.32,214.56 -5.31,383.87
  region: -94.68,383.87 -94.69,214.56 -55.32,214.56 -55.31,383.87
  region: -144.69,383.87 -144.69,214.56 -105.32,214.56 -105.31,383.87
  region: -194.68,383.86 -194.69,214.56 -155.32,214.56 -155.31,383.86
  rectangle: -383.86,155.32 -214.57,194.69
  rectangle: -383.86,105.32 -214.57,144.69
  rectangle: -383.86,55.32 -214.57,94.69
  rectangle: -383.86,5.32 -214.57,44.69
Mechanical 16:
  lines w8: -320.87,-242.13 -320.87,320.87 320.87,320.87 320.87,-320.87 -242.13,-320.87

## W9325 [mil]
pads (44):
  rect 165.35x35.43 smd: 1(-399.61,0) 2(-399.61,-50) 3(-399.61,-100) 4(-399.61,-150) 5(-399.61,-200) 6(-399.61,-250) 18(399.61,-250) 19(399.61,-200) 20(399.61,-150) 21(399.61,-100) 22(399.61,-50) 23(399.61,0) 24(399.61,50) 25(399.61,100) 26(399.61,150) 27(399.61,200) 28(399.61,250) 40(-399.61,250) 41(-399.61,200) 42(-399.61,150) 43(-399.61,100) 44(-399.61,50)
  rect 35.43x165.35 smd: 7(-250,-399.61) 8(-200,-399.61) 9(-150,-399.61) 10(-100,-399.61) 11(-50,-399.61) 12(0,-399.61) 13(50,-399.61) 14(100,-399.61) 15(150,-399.61) 16(200,-399.61) 17(250,-399.61) 29(250,399.61) 30(200,399.61) 31(150,399.61) 32(100,399.61) 33(50,399.61) 34(0,399.61) 35(-50,399.61) 36(-100,399.61) 37(-150,399.61) 38(-200,399.61) 39(-250,399.61)
Top Overlay:
  circle w8: c0,0 r50
  lines w8: -400,300 -400,400 -300,400 ; -399.61,-320.87 -320.87,-399.61 ; 300,-400 400,-400 400,-300 ; 300,400 400,400 400,300
Top Paste:
  rectangle: -480.32,-16.73 -318.9,16.73
  rectangle: -480.32,-66.73 -318.9,-33.27
  rectangle: -480.32,-116.73 -318.9,-83.27
  rectangle: -480.32,-166.73 -318.9,-133.27
  rectangle: -480.32,-216.73 -318.9,-183.27
  rectangle: -480.32,-266.73 -318.9,-233.27
  region: -233.27,-480.31 -233.27,-318.9 -266.74,-318.9 -266.74,-480.31
  region: -183.27,-480.31 -183.27,-318.9 -216.73,-318.9 -216.73,-480.31
  region: -133.27,-480.32 -133.27,-318.89 -166.73,-318.89 -166.73,-480.32
  region: -83.27,-480.32 -83.27,-318.89 -116.73,-318.89 -116.73,-480.32
  region: -33.27,-480.32 -33.27,-318.89 -66.73,-318.89 -66.73,-480.32
  region: 16.73,-480.31 16.73,-318.9 -16.73,-318.9 -16.73,-480.31
  region: 66.73,-480.32 66.73,-318.89 33.27,-318.89 33.27,-480.32
  region: 116.73,-480.32 116.73,-318.89 83.27,-318.89 83.27,-480.32
  region: 166.73,-480.32 166.73,-318.89 133.27,-318.89 133.27,-480.32
  region: 216.73,-480.31 216.73,-318.9 183.27,-318.9 183.27,-480.31
  region: 266.74,-480.31 266.74,-318.9 233.27,-318.9 233.27,-480.31
  region: 480.32,-233.27 318.9,-233.27 318.9,-266.73 480.32,-266.73
  region: 480.32,-183.27 318.9,-183.27 318.9,-216.73 480.32,-216.73
  region: 480.32,-133.27 318.9,-133.27 318.9,-166.73 480.32,-166.73
  region: 480.32,-83.27 318.9,-83.27 318.9,-116.73 480.32,-116.73
  region: 480.32,-33.27 318.9,-33.27 318.9,-66.73 480.32,-66.73
  region: 480.32,16.73 318.9,16.73 318.9,-16.73 480.32,-16.73
  region: 480.32,66.73 318.9,66.73 318.9,33.27 480.32,33.27
  region: 480.32,116.73 318.9,116.73 318.9,83.27 480.32,83.27
  region: 480.32,166.73 318.9,166.73 318.9,133.27 480.32,133.27
  region: 480.32,216.73 318.9,216.73 318.9,183.27 480.32,183.27
  region: 480.32,266.73 318.9,266.73 318.9,233.27 480.32,233.27
  region: 233.27,480.31 233.26,318.9 266.73,318.9 266.74,480.31
  region: 183.27,480.31 183.26,318.9 216.73,318.9 216.74,480.31
  region: 133.27,480.32 133.26,318.89 166.73,318.89 166.74,480.32
  region: 83.27,480.32 83.27,318.89 116.73,318.89 116.73,480.32
  region: 33.27,480.32 33.27,318.89 66.73,318.89 66.73,480.32
  region: -16.73,480.31 -16.73,318.9 16.73,318.9 16.73,480.31
  region: -66.73,480.32 -66.73,318.89 -33.27,318.89 -33.27,480.32
  region: -116.73,480.32 -116.73,318.89 -83.27,318.89 -83.27,480.32
  region: -166.73,480.32 -166.74,318.89 -133.27,318.89 -133.26,480.32
  region: -216.73,480.31 -216.74,318.9 -183.27,318.9 -183.26,480.31
  region: -266.73,480.31 -266.74,318.9 -233.27,318.9 -233.26,480.31
  rectangle: -480.32,233.27 -318.9,266.73
  rectangle: -480.32,183.27 -318.9,216.73
  rectangle: -480.32,133.27 -318.9,166.73
  rectangle: -480.32,83.27 -318.9,116.73
  rectangle: -480.32,33.27 -318.9,66.73
Top Solder:
  rectangle: -484.25,-19.69 -314.96,19.69
  rectangle: -484.25,-69.69 -314.96,-30.32
  rectangle: -484.25,-119.69 -314.96,-80.32
  rectangle: -484.25,-169.69 -314.96,-130.32
  rectangle: -484.25,-219.69 -314.96,-180.32
  rectangle: -484.25,-269.69 -314.96,-230.32
  region: -230.31,-484.25 -230.31,-314.96 -269.69,-314.96 -269.69,-484.25
  region: -180.31,-484.25 -180.31,-314.96 -219.69,-314.96 -219.69,-484.25
  region: -130.31,-484.25 -130.31,-314.96 -169.69,-314.96 -169.69,-484.25
  region: -80.31,-484.25 -80.31,-314.96 -119.69,-314.96 -119.69,-484.25
  region: -30.32,-484.25 -30.31,-314.96 -69.69,-314.96 -69.69,-484.25
  region: 19.68,-484.25 19.69,-314.96 -19.68,-314.96 -19.69,-484.25
  region: 69.69,-484.25 69.69,-314.96 30.32,-314.96 30.31,-484.25
  region: 119.69,-484.25 119.69,-314.96 80.31,-314.96 80.31,-484.25
  region: 169.69,-484.25 169.69,-314.96 130.31,-314.96 130.31,-484.25
  region: 219.69,-484.25 219.69,-314.96 180.31,-314.96 180.31,-484.25
  region: 269.69,-484.25 269.69,-314.96 230.31,-314.96 230.31,-484.25
  region: 484.25,-230.32 314.96,-230.32 314.96,-269.69 484.25,-269.69
  region: 484.25,-180.32 314.96,-180.32 314.96,-219.69 484.25,-219.69
  region: 484.25,-130.32 314.96,-130.32 314.96,-169.69 484.25,-169.69
  region: 484.25,-80.32 314.96,-80.32 314.96,-119.69 484.25,-119.69
  region: 484.25,-30.32 314.96,-30.32 314.96,-69.69 484.25,-69.69
  region: 484.25,19.69 314.96,19.69 314.96,-19.69 484.25,-19.69
  region: 484.25,69.69 314.96,69.69 314.96,30.32 484.25,30.32
  region: 484.25,119.69 314.96,119.69 314.96,80.32 484.25,80.32
  region: 484.25,169.69 314.96,169.69 314.96,130.32 484.25,130.32
  region: 484.25,219.69 314.96,219.69 314.96,180.32 484.25,180.32
  region: 484.25,269.69 314.96,269.69 314.96,230.32 484.25,230.32
  region: 230.32,484.25 230.31,314.96 269.68,314.96 269.69,484.25
  region: 180.32,484.25 180.31,314.96 219.68,314.96 219.69,484.25
  region: 130.32,484.25 130.31,314.96 169.68,314.96 169.69,484.25
  region: 80.32,484.25 80.31,314.96 119.68,314.96 119.69,484.25
  region: 30.32,484.25 30.31,314.96 69.68,314.96 69.69,484.25
  region: -19.68,484.25 -19.69,314.96 19.68,314.96 19.69,484.25
  region: -69.68,484.25 -69.69,314.96 -30.32,314.96 -30.31,484.25
  region: -119.68,484.25 -119.69,314.96 -80.32,314.96 -80.31,484.25
  region: -169.68,484.25 -169.69,314.96 -130.32,314.96 -130.31,484.25
  region: -219.68,484.25 -219.69,314.96 -180.32,314.96 -180.31,484.25
  region: -269.68,484.25 -269.69,314.96 -230.32,314.96 -230.31,484.25
  rectangle: -484.25,230.32 -314.96,269.69
  rectangle: -484.25,180.32 -314.96,219.69
  rectangle: -484.25,130.32 -314.96,169.69
  rectangle: -484.25,80.32 -314.96,119.69
  rectangle: -484.25,30.32 -314.96,69.69
Mechanical 16:
  lines w8: -399.61,-320.87 -399.61,399.61 399.61,399.61 399.61,-399.61 -320.87,-399.61